# EAGLE library part CON_SHROUDED_8P (library jesse)
Generic 8 pin shouded .1" header
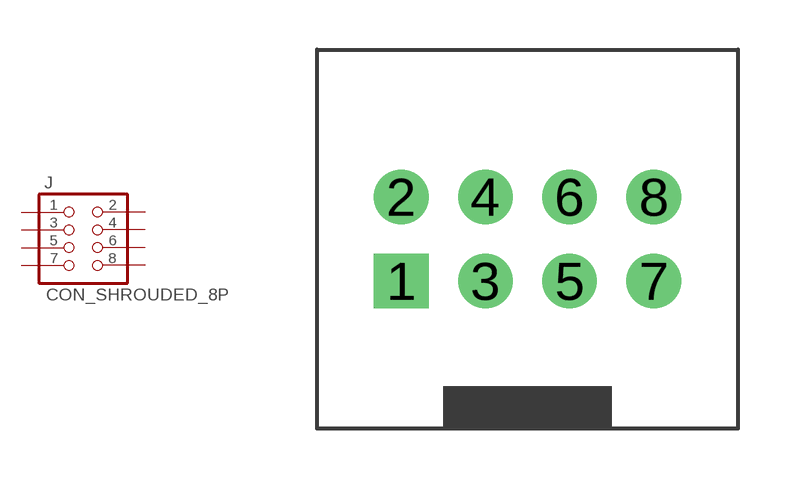
[diagram p4: symbol with the pads of CON_SHROUDED_8_PIN; footprint CON_SHROUDED_8_PIN]

Designator prefix J

## CON_SHROUDED_8P  [CON_SHROUDED_8_PIN]
1  1  pas
2  2  pas
3  3  pas
4  4  pas
5  5  pas
6  6  pas
7  7  pas
8  8  pas

## Footprint CON_SHROUDED_8_PIN (pad centres in mm)
drill 1.1 square: 1 0,0
drill 1.1: 2 0,2.54; 3 2.54,0; 4 2.54,2.54; 5 5.08,0; 6 5.08,2.54; 7 7.62,0; 8 7.62,2.54